# Altium footprint library 8-PowerSMD.PcbLib: 1 footprints
Each footprint in its own frame and in the unit in brackets; x right, y up, seen from the top. Pads: shape width x height; smd on the part's side, far side on the other; paste and mask are expansions set on the pad; w line width, h text height; cw(c..) or ccw(c..) is an arc to the next point about the centre after c.
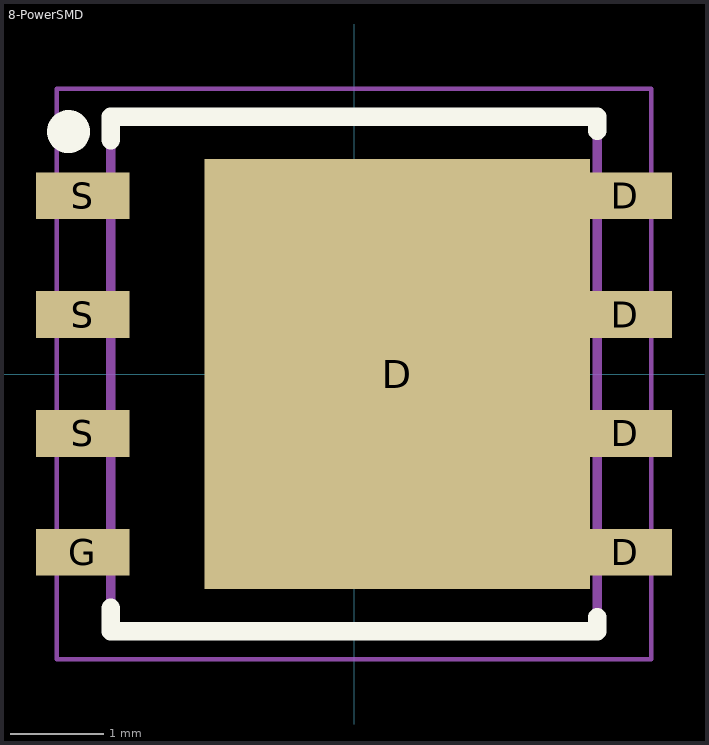
[diagram p0: the footprint, top view; thin cyan lines are the x and y axes]

## 8-PowerSMD [mm]
pads (9):
  rect 4.12x4.6 smd: D(0.46,0)
  rect 1x0.5 smd: D(2.9,-1.905) D(2.9,-0.635) D(2.9,0.635) D(2.9,1.905) G(-2.9,-1.905) S(-2.9,-0.635) S(-2.9,0.635) S(-2.9,1.905)
Top Overlay:
  circle w0.3: c-3.05,2.59 r0.08
  lines w0.2: -2.6,-2.5 -2.6,-2.75 2.6,-2.75 2.6,-2.6 ; -2.6,2.5 -2.6,2.75 2.6,2.75 2.6,2.6
Mechanical 4:
  lines w0.1: -2.6,-2.75 -2.6,2.75 ; -2.6,-2.75 2.6,-2.75 ; -2.6,-2.75 -2.6,2.75 ; -2.6,-2.75 2.6,-2.75 ; -2.6,2.75 2.6,2.75 ; -2.6,2.75 2.6,2.75 ; 2.6,-2.75 2.6,2.75 ; 2.6,-2.75 2.6,2.75
Mechanical 15:
  lines w0.05: -3.175,-3.048 -3.175,3.048 3.175,3.048 3.175,-3.048 -3.175,-3.048
3D body "8-POWERSMD.STEP": height 1.1, standoff 0, extent -3.075,-2.575 3.075,2.575